# Altium footprint library Cap_Panasonic_Electronic_Components_ECQ-E4224KF_eec_MFG.PcbLib: 1 footprints
Each footprint in its own frame and in the unit in brackets; x right, y up, seen from the top. Pads: shape width x height; smd on the part's side, far side on the other; paste and mask are expansions set on the pad; w line width, h text height; cw(c..) or ccw(c..) is an arc to the next point about the centre after c.
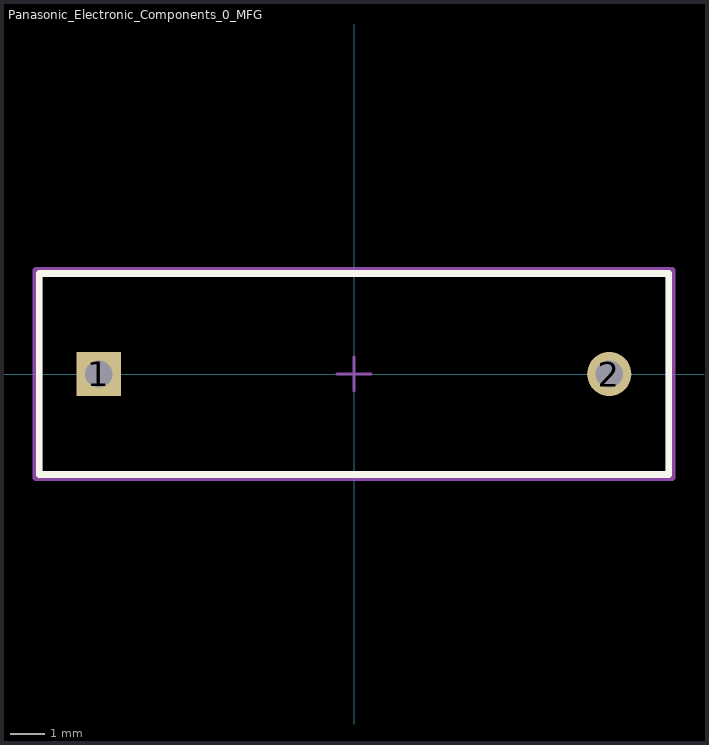
[diagram p0: the footprint, top view; thin cyan lines are the x and y axes]

## Panasonic_Electronic_Components_0_MFG [mm]
pads (2):
  rect 1.3x1.3 hole 0.8 paste-1000 mask+0: 1(-7.5,0)
  round 1.3 hole 0.8 paste-1000 mask+0: 2(7.5,0)
Top Overlay:
  lines w0.2: -9.25,-2.95 9.25,-2.95 9.25,2.95 -9.25,2.95 -9.25,-2.95
Mechanical 10:
  lines w0.2: -9.35,-3.05 9.35,-3.05 9.35,3.05 -9.35,3.05 -9.35,-3.05
  text ".Designator" at 0,0 h1
Mechanical 12:
  lines w0.2: -9.25,-2.95 9.25,-2.95 9.25,2.95 -9.25,2.95 -9.25,-2.95
Mechanical 15:
  lines w0.1: -0.5,0 0.5,0 ; 0,-0.5 0,0.5
  lines w0.2: -9.35,-3.05 9.35,-3.05 9.35,3.05 -9.35,3.05 -9.35,-3.05
3D body "Cap_Panasonic_Electronic_Components_ECQ-E4224KF_eec.STEP": height 0.25, standoff 0, extent -9.35,-3.05 9.35,3.05